# Altium schematic symbol library Schlib1.SchLib: 5 symbols
Pins are listed as number, name and electrical type; pins without a type are passive.

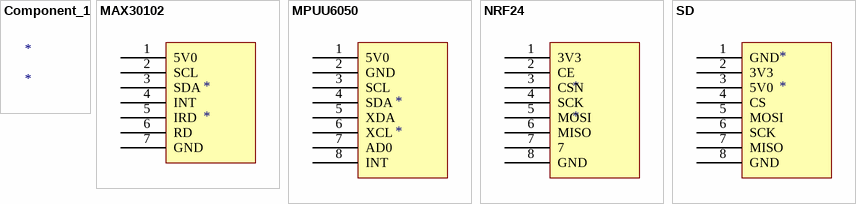
[diagram p0: symbols Component_1 to SD]

## Component_1
designator *

## MAX30102
designator *
footprint max30102
pins: 1 5V0, 2 SCL, 3 SDA, 4 INT, 5 IRD, 6 RD, 7 GND

## MPUU6050
designator *
footprint Model Name (Footprint not found)
footprint mpu6050
pins: 1 5V0, 2 GND, 3 SCL, 4 SDA, 5 XDA, 6 XCL, 7 AD0, 8 INT

## NRF24
designator *
footprint nrf24
pins: 1 3V3, 2 CE, 3 CSN, 4 SCK, 5 MOSI, 6 MISO, 7, 8 GND

## SD
designator *
footprint sd
pins: 1 GND, 2 3V3, 3 5V0, 4 CS, 5 MOSI, 6 SCK, 7 MISO, 8 GND